# EAGLE library part FPC052002-08LT (library template)
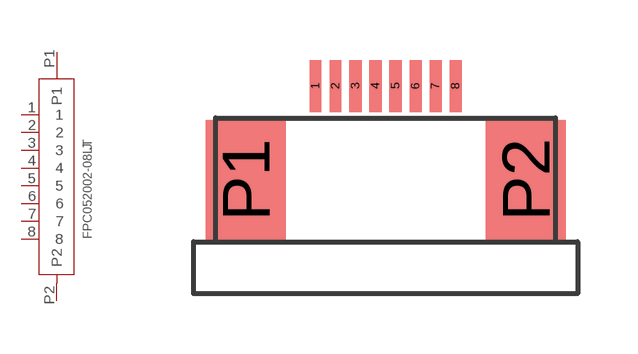
[diagram p19: symbol with the pads of 8P-0.5; footprint 8P-0.5]

Designator prefix J

## FPC052002-08LT  [8P-0.5]
1  1
2  2
3  3
4  4
5  5
6  6
7  7
8  8
P1  P1
P2  P2

## Footprint 8P-0.5 (pad centres in mm)
smd 0.3 x 1.3: 1 -1.75,2.35; 2 -1.25,2.35; 3 -0.75,2.35; 4 -0.25,2.35; 5 0.25,2.35; 6 0.75,2.35; 7 1.25,2.35; 8 1.75,2.35
smd 2 x 3: P1 -3.5,0; P2 3.5,0